# EAGLE library part IMP002 (library electric_imp)
The imp is a complete wireless network node in a module. It is available both in a memory card form-factor (imp001) and in a solder-down module form-factor (imp002). It works in conjunction with the imp service to allow easy connection of any device to the internet. This component is the solder down module imp002. Download and updates for the component: http://smartmaker.org/wiki/Projects:Eagle_Libraries:imp002 Specifications for the Electric Imp: http://devwiki.electricimp.com/doku.php?id=specs Author: Dimitri Albino - dimitri@smartmaker.org
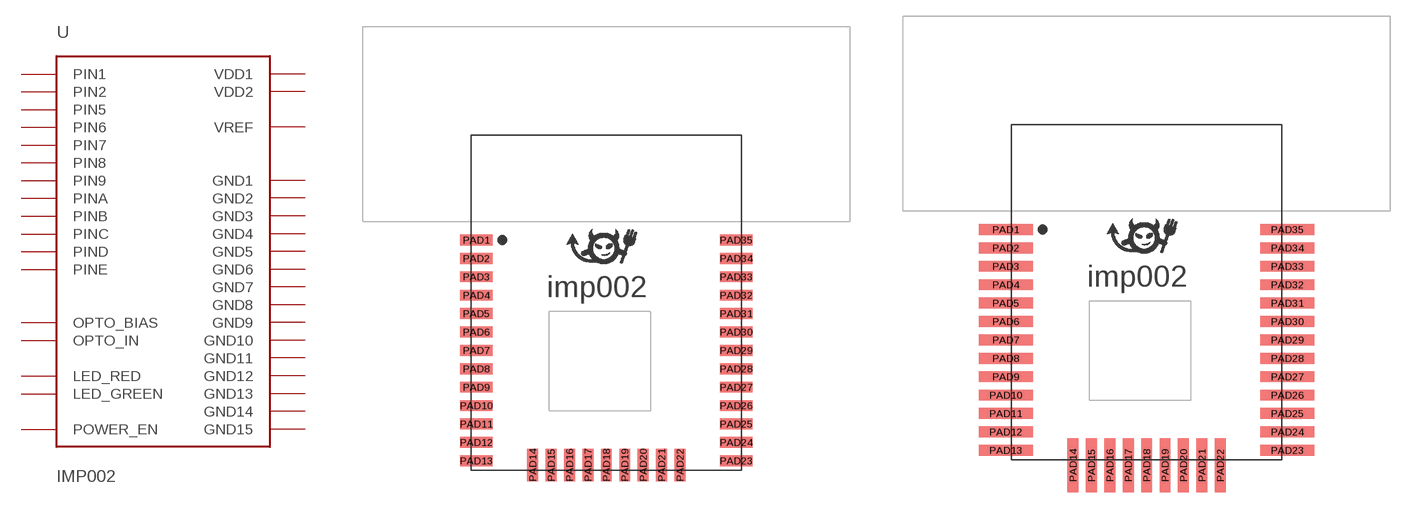
[diagram p0: symbol with the pads of IMP002; footprints IMP002, IMP002_MANUAL_SOLDER]

Designator prefix -

## IMP002MANUFACTURING (VALUE: imp002)  [IMP002]
PAD1  GND1
PAD2  OPTO_BIAS
PAD3  LED_GREEN
PAD4  LED_RED
PAD5  POWER_EN
PAD6  OPTO_IN
PAD7  GND2
PAD8  PINA
PAD9  PINB
PAD10  PINC
PAD11  PIND
PAD12  PINE
PAD13  GND3
PAD14  PIN9
PAD15  PIN1
PAD16  PIN2
PAD17  GND4
PAD18  VDD1
PAD19  PIN5
PAD20  PIN6
PAD21  PIN7
PAD22  PIN8
PAD23  GND5
PAD24  GND6
PAD25  GND7
PAD26  GND8
PAD27  GND9
PAD28  GND10
PAD29  GND11
PAD30  GND12
PAD31  GND13
PAD32  GND14
PAD33  VDD2
PAD34  VREF
PAD35  GND15

## IMP002MANUAL_SOLDERING (VALUE: imp002)  [IMP002_MANUAL_SOLDER]
Pads as for IMP002

## Footprint IMP002 (pad centres in mm)
imp002 solder module package for manufacturing
smd 3 x 1: PAD1 -12,7.8; PAD2 -12,6.1; PAD3 -12,4.4; PAD4 -12,2.7; PAD5 -12,1; PAD6 -12,-0.7; PAD7 -12,-2.4; PAD8 -12,-4.1; PAD9 -12,-5.8; PAD10 -12,-7.5; PAD11 -12,-9.2; PAD12 -12,-10.9; PAD13 -12,-12.6; PAD23 12,-12.6; PAD24 12,-10.9; PAD25 12,-9.2; PAD26 12,-7.5; PAD27 12,-5.8; PAD28 12,-4.1; PAD29 12,-2.4; PAD30 12,-0.7; PAD31 12,1; PAD32 12,2.7; PAD33 12,4.4; PAD34 12,6.1; PAD35 12,7.8
smd 1 x 3: PAD14 -6.8,-13; PAD15 -5.1,-13; PAD16 -3.4,-13; PAD17 -1.7,-13; PAD18 0,-13; PAD19 1.7,-13; PAD20 3.4,-13; PAD21 5.1,-13; PAD22 6.8,-13

## Footprint IMP002_MANUAL_SOLDER (pad centres in mm)
imp002 solder module package for manual soldering
smd 5 x 1: PAD1 -13,7.8; PAD2 -13,6.1; PAD3 -13,4.4; PAD4 -13,2.7; PAD5 -13,1; PAD6 -13,-0.7; PAD7 -13,-2.4; PAD8 -13,-4.1; PAD9 -13,-5.8; PAD10 -13,-7.5; PAD11 -13,-9.2; PAD12 -13,-10.9; PAD13 -13,-12.6; PAD23 13,-12.6; PAD24 13,-10.9; PAD25 13,-9.2; PAD26 13,-7.5; PAD27 13,-5.8; PAD28 13,-4.1; PAD29 13,-2.4; PAD30 13,-0.7; PAD31 13,1; PAD32 13,2.7; PAD33 13,4.4; PAD34 13,6.1; PAD35 13,7.8
smd 1 x 5: PAD14 -6.8,-14; PAD15 -5.1,-14; PAD16 -3.4,-14; PAD17 -1.7,-14; PAD18 0,-14; PAD19 1.7,-14; PAD20 3.4,-14; PAD21 5.1,-14; PAD22 6.8,-14